# Altium footprint library MS5803.PcbLib: 17 footprints (part 2 of 2)
Each footprint in its own frame and in the unit in brackets; x right, y up, seen from the top. Pads: shape width x height; smd on the part's side, far side on the other; paste and mask are expansions set on the pad; w line width, h text height; cw(c..) or ccw(c..) is an arc to the next point about the centre after c.
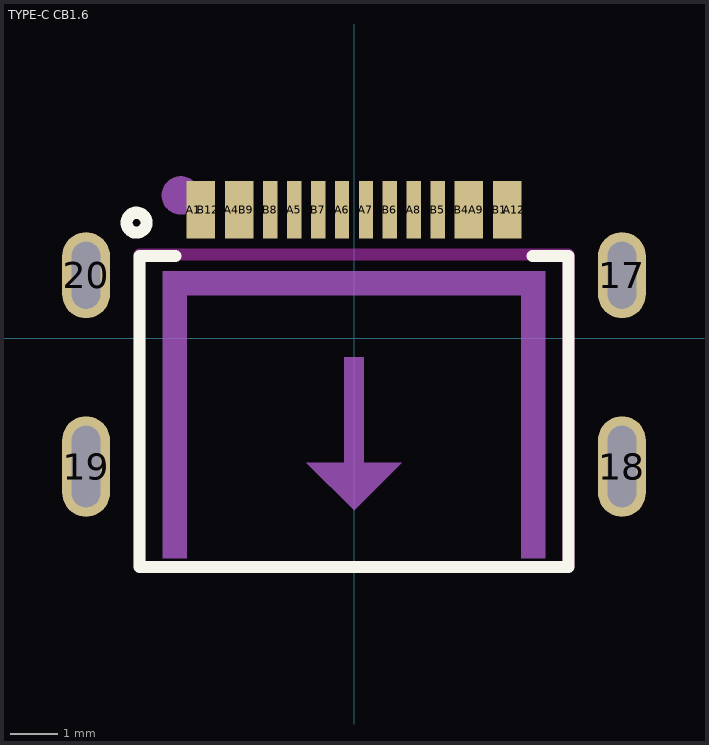
[diagram p1: the footprint, top view; thin cyan lines are the x and y axes]

## TYPE-C CB1.6 [mm]
pads (20):
  oval 1x1.8 hole 0.6 slot 1.4 at 90 deg: 17(5.6,1.316) 20(-5.6,1.316)
  oval 1x2.1 hole 0.6 slot 1.7 at 90 deg: 18(5.6,-2.683) 19(-5.6,-2.684)
  rect 0.3x1.2 smd: A1(-3.35,2.684) A4(-2.55,2.684) A5(-1.25,2.684) A6(-0.25,2.684) A7(0.25,2.684) A8(1.25,2.684) A9(2.55,2.684) A12(3.35,2.684) B1(3.05,2.684) B4(2.25,2.684) B5(1.75,2.684) B6(0.75,2.684) B7(-0.75,2.684) B8(-1.75,2.684) B9(-2.25,2.684) B12(-3.05,2.684)
Top Overlay:
  circle w0.254: c-4.544,2.413 r0.208
  lines w0.254: -3.731,1.717 -4.48,1.717 -4.48,-4.783 4.48,-4.783 4.48,1.717 3.731,1.717
Top Paste:
  region: -6.1,-2.134 -6.1,-2.034 -6.024,-1.851 -5.883,-1.71 -5.699,-1.634 -5.5,-1.634 -5.317,-1.71 -5.176,-1.851 -5.1,-2.034 -5.1,-2.134 -5.1,-3.234 -5.1,-3.333 -5.176,-3.517 -5.317,-3.658 -5.5,-3.734 -5.699,-3.734 -5.883,-3.658 -6.024,-3.517 -6.1,-3.333 -6.1,-3.234
  region: -6.1,1.716 -6.1,1.816 -6.024,1.999 -5.883,2.14 -5.699,2.216 -5.5,2.216 -5.317,2.14 -5.176,1.999 -5.1,1.816 -5.1,1.716 -5.1,0.916 -5.1,0.817 -5.176,0.633 -5.317,0.492 -5.5,0.416 -5.699,0.416 -5.883,0.492 -6.024,0.633 -6.1,0.817 -6.1,0.916
  region: 5.1,-2.134 5.1,-2.034 5.176,-1.85 5.317,-1.71 5.501,-1.634 5.699,-1.634 5.883,-1.71 6.024,-1.85 6.1,-2.034 6.1,-2.134 6.1,-3.234 6.1,-3.333 6.024,-3.517 5.883,-3.657 5.699,-3.734 5.501,-3.734 5.317,-3.657 5.176,-3.517 5.1,-3.333 5.1,-3.234
  region: 5.1,1.716 5.1,1.816 5.176,2 5.317,2.14 5.501,2.216 5.699,2.216 5.883,2.14 6.024,2 6.1,1.816 6.1,1.716 6.1,0.916 6.1,0.817 6.024,0.633 5.883,0.493 5.699,0.416 5.501,0.416 5.317,0.493 5.176,0.633 5.1,0.817 5.1,0.916
  region: -1.9,3.084 -1.6,3.084 -1.6,1.884 -1.9,1.884
  region: -1.4,3.084 -1.1,3.084 -1.1,1.884 -1.4,1.884
  region: -0.9,3.084 -0.6,3.084 -0.6,1.884 -0.9,1.884
  region: -0.4,3.084 -0.1,3.084 -0.1,1.884 -0.4,1.884
  region: 0.1,3.084 0.4,3.084 0.4,1.884 0.1,1.884
  region: 0.6,3.084 0.9,3.084 0.9,1.884 0.6,1.884
  region: 1.1,3.084 1.4,3.084 1.4,1.884 1.1,1.884
  region: 1.6,3.084 1.9,3.084 1.9,1.884 1.6,1.884
  region: 2.9,1.884 2.9,3.084 3.5,3.084 3.5,1.884
  region: 2.1,1.884 2.1,3.084 2.7,3.084 2.7,1.884
  region: -2.7,1.884 -2.7,3.084 -2.1,3.084 -2.1,1.884
  region: -3.5,1.884 -3.5,3.084 -2.9,3.084 -2.9,1.884
Keep-Out Layer:
  lines w0.254: -4.48,-4.76 -4.48,1.75 4.48,1.75 4.48,-4.76
Mechanical 15:
  circle w0.4: c-3.621,2.984 r0.2
  region: -4,-4.6 -4,1.4 -3.5,1.4 -3.5,-4.6
  region: 4,-4.6 4,1.4 3.5,1.4 3.5,-4.6
  region: -3.5,1.4 3.5,1.4 3.5,0.9 -3.5,0.9
  region: -1,-2.6 0,-2.6 1,-2.6 0,-3.6
  region: 0,-2.6 -0.2,-2.6 -0.2,-0.4 0.2,-0.4 0.2,-2.6
3D body "User Library-TYPE-C-31-M-14.STEP": height 1.59, standoff -1.57, extent -5.758,-4.897 5.715,3.683